# EAGLE library part MC14518BCPG (library ON Semiconductor_By_element14_Batch_1)
Dual Up Counters
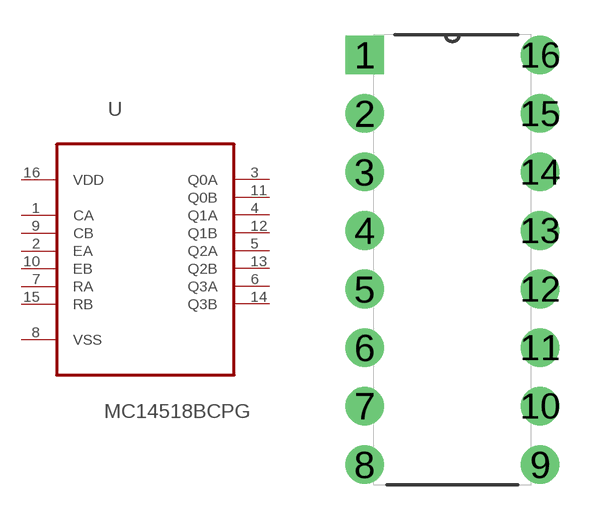
[diagram p282: symbol with the pads of DIP254P762X444-16; footprint DIP254P762X444-16]

Designator prefix U

## MC14518BCPG (MPN: MC14518BCPG; OC_FARNELL: 9665633; OC_NEWARK: 45J1110; P1I: o; PACKAGE: PDIP-16; SUPPLIER: On semiconductors)  [DIP254P762X444-16]
1  CA  in
2  EA  in
3  Q0A  out
4  Q1A  out
5  Q2A  out
6  Q3A  out
7  RA  in
8  VSS  pwr
9  CB  in
10  EB  in
11  Q0B  out
12  Q1B  out
13  Q2B  out
14  Q3B  out
15  RB  in
16  VDD  pwr

## Footprint DIP254P762X444-16 (pad centres in mm)
drill 1.118 square: 1 -7.62,17.78
drill 1.118: 2 -7.62,15.24; 3 -7.62,12.7; 4 -7.62,10.16; 5 -7.62,7.62; 6 -7.62,5.08; 7 -7.62,2.54; 8 -7.62,0; 9 0,0; 10 0,2.54; 11 0,5.08; 12 0,7.62; 13 0,10.16; 14 0,12.7; 15 0,15.24; 16 0,17.78